# EAGLE library part 20020110-D121A01LF (library con-fci)
12 Position Terminal Block Header
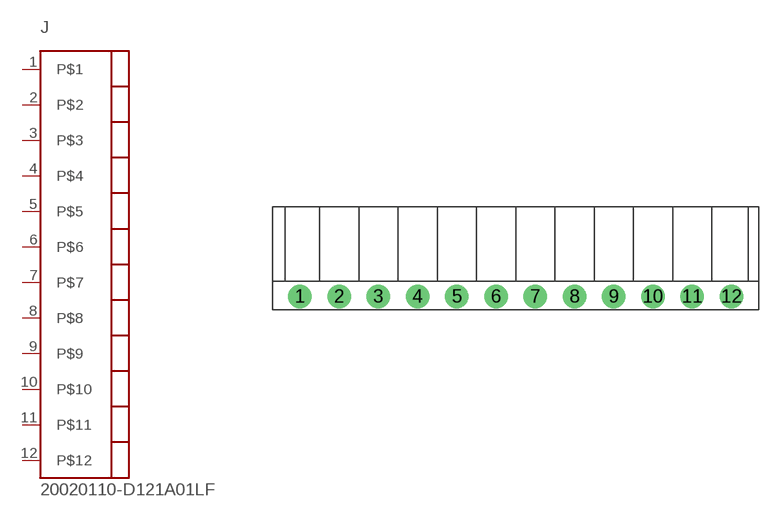
[diagram p6: symbol with the pads of 20020110-D121A01LF; footprint 20020110-D121A01LF]

Designator prefix J

## 20020110-D121A01LF (ASSOC: 609-3806-ND; DIGIKEY: 609-3828-ND; MPN: 20020110-D121A01LF)  [20020110-D121A01LF]
1  P$1
2  P$2
3  P$3
4  P$4
5  P$5
6  P$6
7  P$7
8  P$8
9  P$9
10  P$10
11  P$11
12  P$12

## Footprint 20020110-D121A01LF (pad centres in mm)
drill 1.397: 1 -19.279,0; 2 -15.773,0; 3 -12.268,0; 4 -8.763,0; 5 -5.258,0; 6 -1.753,0; 7 1.753,0; 8 5.258,0; 9 8.763,0; 10 12.268,0; 11 15.773,0; 12 19.279,0